# Altium integrated library Components - 24.04.26 - 01.50.IntLib: 1 symbol
Pins are listed as number, name and electrical type; pins without a type are passive.

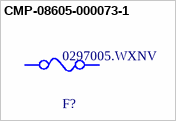
[diagram p0: symbol CMP-08605-000073-1]

## CMP-08605-000073-1
designator F?, comment 0297005.WXNV
FUSE AUTO 5A 32VDC BLADE MINI; Manufacturer: Littelfuse Inc; Fuse Interrupt Dc Current: 1000A; Fuse Blow Speed: Fast; Fuse Voltage Drop: 129mV; Value: 17.75mΩ; Voltage Rating: 32V; Fuse I2T: 25A2Sec; Category: Fuse; Temperature: -40°C to +125°C; Manufacturer Part Number: 0297005.WXNV; Digikey Description: FUSE AUTO 5A 32VDC BLADE MINI; Lead Free: Yes; Temperature Range High: +125°C; Package: 0297; ComponentLink2Description: Datasheet; Octopart: https://octopart.com/0297005.wxnv-littelfuse-566870; Fuse Current: 5A; Temperature Range Low: -40°C; Mouser Description: Automotive Fuses 32V 5A Mini; RoHS: TRUE; Device Class L1: Circuit Protection; Resistance: 17.75mΩ; Automotive: Yes; Device Class L2: Fuses; Device Class L3: unset; ComponentLink2URL: https://www.littelfuse.com/~/media/automotive/datasheets/fuses/passenger-car-and-commercial-vehicle/blade-fuses/littelfuse_mini_datasheet.pdf; Max Fuse Dc Voltage: 32V
footprint FP-0297-MFG